# EAGLE library part PWR_REG_TPS62125DSGR (library !GPLIB_ACTIVE)
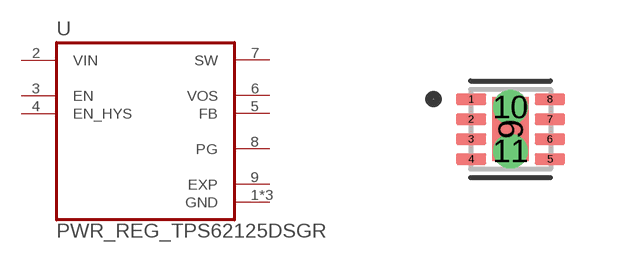
[diagram p28: symbol with the pads of SON50P200X200X80-9N; footprint SON50P200X200X80-9N]

Designator prefix U

## PWR_REG_TPS62125DSGR  [SON50P200X200X80-9N]
1  GND  pwr
2  VIN  pwr
3  EN  in
4  EN_HYS  out
5  FB  in
6  VOS  in
7  SW  out
8  PG  out
9  EXP  pas
10  GND  pwr
11  GND  pwr

## Footprint SON50P200X200X80-9N (pad centres in mm)
smd 0.76 x 0.28: 1 -0.985,0.75; 2 -0.985,0.25; 3 -0.985,-0.25; 4 -0.985,-0.75; 5 0.985,-0.75; 6 0.985,-0.25; 7 0.985,0.25; 8 0.985,0.75
smd 0.9 x 1.6: 9 0,0
drill 0.35 pad 0.7: 10 0,0.55; 11 0,-0.55